# Altium footprint library SA53.PcbLib: 3 footprints
Each footprint in its own frame and in the unit in brackets; x right, y up, seen from the top. Pads: shape width x height; smd on the part's side, far side on the other; paste and mask are expansions set on the pad; w line width, h text height; cw(c..) or ccw(c..) is an arc to the next point about the centre after c.
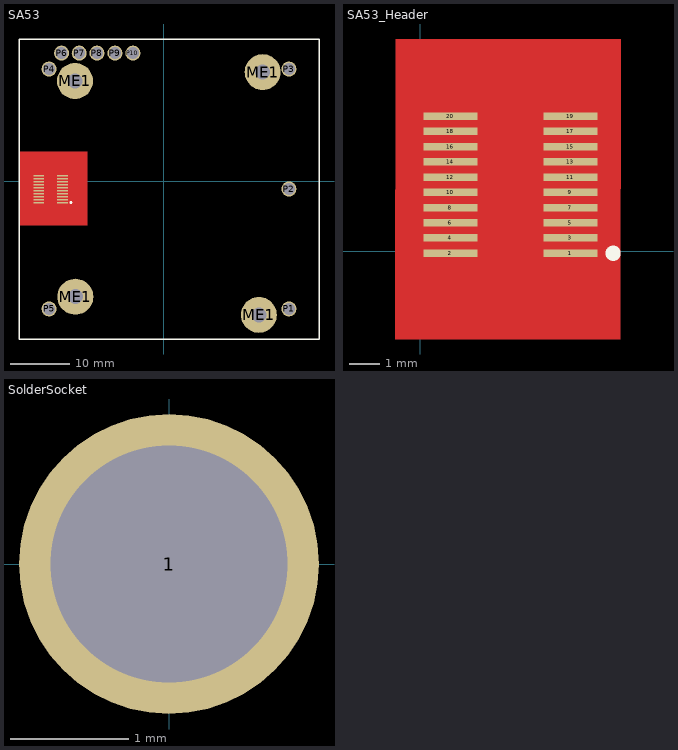
[diagram p0: the footprints below, top view; thin cyan lines are the x and y axes]

## SA53 [mm]
pads (34):
  rect 1.8x0.25 smd: 1(-17.167,-3.641) 2(-21.167,-3.641) 3(-17.167,-3.133) 4(-21.167,-3.133) 5(-17.167,-2.625) 6(-21.167,-2.625) 7(-17.167,-2.117) 8(-21.167,-2.117) 9(-17.167,-1.609) 10(-21.167,-1.609) 11(-17.167,-1.101) 12(-21.167,-1.101) 13(-17.167,-0.593) 14(-21.167,-0.593) 15(-17.167,-0.085) 16(-21.167,-0.085) 17(-17.167,0.423) 18(-21.167,0.423) 19(-17.167,0.931) 20(-21.167,0.931)
  round 6.096 / inner round 3.048 / far side round 6.096 hole 2.54 unplated: ME1(-15.055,16.943) ME1(-14.988,-19.593) ME1(16.087,-22.666) ME1(16.722,18.442)
  round 2.54 hole 2.007: P1(21.167,-21.65) P2(21.167,-1.35) P3(21.167,18.95) P4(-19.433,18.95) P5(-19.433,-21.65) P6(-17.333,21.65) P7(-14.333,21.65) P8(-11.333,21.65) P9(-8.285,21.65) P10(-5.237,21.65)
Top Layer:
  pour cut-out: -24.5,5 -13,5 -13,-7.5 -24.5,-7.5
  pour cut-out: -15.5,3.5 -15.5,-6.5 -23,-6.5 -23,3.5
Top Overlay:
  circle w0.254: c-15.747,-3.641 r0.127
  lines w0.254: -24.533,-26.75 26.267,-26.75 26.267,24.05 -24.533,24.05 -24.533,-26.75
3D body "529910208.stp": height 2.28, standoff -0.01, extent -21.832,-5.75 -16.432,3.05

## SA53_Header [mm]
pads (20):
  rect 1.8x0.25 smd: 1(5,-0.072) 2(1,-0.072) 3(5,0.436) 4(1,0.436) 5(5,0.944) 6(1,0.944) 7(5,1.452) 8(1,1.452) 9(5,1.96) 10(1,1.96) 11(5,2.468) 12(1,2.468) 13(5,2.976) 14(1,2.976) 15(5,3.484) 16(1,3.484) 17(5,3.992) 18(1,3.992) 19(5,4.5) 20(1,4.5)
Top Layer:
  pour cut-out: 6.667,7.069 6.667,-2.931 -0.833,-2.931 -0.833,7.069
Top Overlay:
  circle w0.254: c6.42,-0.072 r0.127
3D body "529910208.stp": height 2.28, standoff -0.01, extent 0.335,-2.181 5.735,6.619

## SolderSocket [mil]
pads (1):
  round 100 hole 79: 1(0,0)